# Altium footprint library NHD-0108HZ-FSW-GBW.PcbLib: 1 footprints
Each footprint in its own frame and in the unit in brackets; x right, y up, seen from the top. Pads: shape width x height; smd on the part's side, far side on the other; paste and mask are expansions set on the pad; w line width, h text height; cw(c..) or ccw(c..) is an arc to the next point about the centre after c.
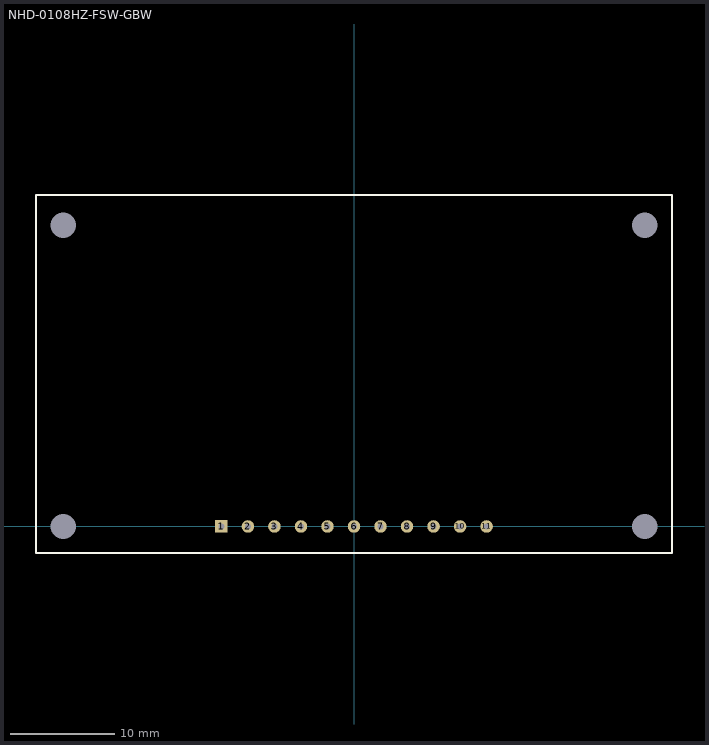
[diagram p0: the footprint, top view; thin cyan lines are the x and y axes]

## NHD-0108HZ-FSW-GBW [mm]
pads (15):
  rect 1.2x1.2 hole 0.6: 1(-12.7,0)
  round 1.2 hole 0.6: 2(-10.16,0) 3(-7.62,0) 4(-5.08,0) 5(-2.54,0) 6(0,0) 7(2.54,0) 8(5.08,0) 9(7.62,0) 10(10.16,0) 11(12.7,0)
  round 0.508 hole 2.413 unplated: ""(-27.851,0) ""(-27.851,28.849) ""(27.851,0) ""(27.851,28.849)
Top Overlay:
  lines w0.2: -30.48,-2.54 -30.48,31.75 30.48,31.75 30.48,-2.54 -30.48,-2.54